# Altium schematic symbol library Kayan22v1.SchLib: 1 symbol
Pins are listed as number, name and electrical type; pins without a type are passive.

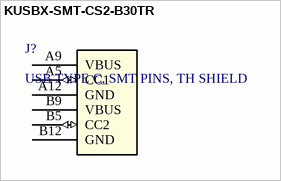
[diagram p0: symbol KUSBX-SMT-CS2-B30TR]

## KUSBX-SMT-CS2-B30TR
designator J?, comment USB TYPE C, SMT PINS, TH SHIELD
USB-C (USB TYPE-C) USB 3.2 Gen 2 (USB 3.1 Gen 2, Superspeed + (USB 3.1)) Receptacle Connector 24 Position Surface Mount, Right Angle; Through Hole; Manufacturer: Kycon; Supplier 1: Digi-Key; Product Link: https://www.digikey.com/en/products/detail/kycon-inc/KUSBX-SMT-CS2-B30TR/10248194; Supplier Part Number 1: 2092-KUSBX-SMT-CS2-B30CT-ND
pins: A5 CC1 (io), A9 VBUS (power), A12 GND, B5 CC2 (io), B9 VBUS (power), B12 GND